# Altium schematic symbol library SCH_Active.SchLib: 28 symbols
Pins are listed as number, name and electrical type; pins without a type are passive.

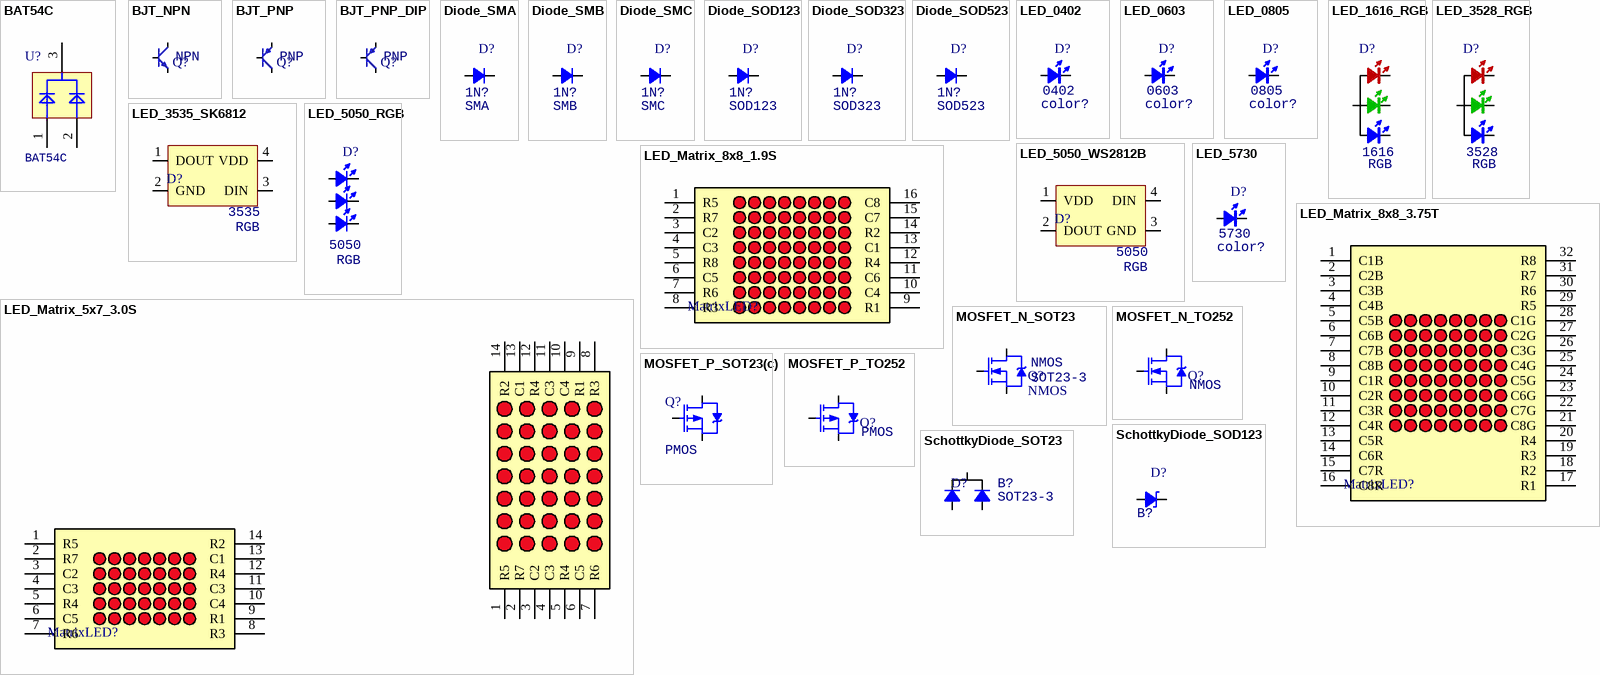
[diagram p0: symbols BAT54C to SchottkyDiode_SOT23]

## BAT54C
designator U?
Diode; type: BAT54C
footprint SOT23-3
pins: 1, 2, 3

## BJT_NPN
designator Q?, comment NPN
Transistor; Value: NPN
footprint SOT23-3
pins: 1 B, 2 E, 3 C

## BJT_PNP
designator Q?, comment PNP
Transistor; Value: PNP
footprint SOT23-3
pins: 1 B, 2 E, 3 C

## BJT_PNP_DIP
designator Q?, comment PNP
Transistor; Value: PNP
footprint TO-92_HDR
pins: 1 E, 2 B, 3 C

## Diode_SMA
designator D?, comment Type: SMA  (hidden comment: 1N?)
Diode; Value: 1N?
footprint DO-214AC (SMA)
pins: 1 A, 2 K

## Diode_SMB
designator D?, comment Type: SMB  (hidden comment: 1N?)
Diode; Value: 1N?
footprint DO-214AA (SMB)
pins: 1 A, 2 K

## Diode_SMC
designator D?, comment Type: SMC  (hidden comment: 1N?)
Diode; Value: 1N?
footprint DO-214AB (SMC)
pins: 1 A, 2 K

## Diode_SOD123
designator D?, comment Type: SOD123  (hidden comment: 1N?)
Diode; Value: 1N?
footprint SOD-123
pins: 1 A, 2 K

## Diode_SOD323
designator D?, comment Type: SOD323  (hidden comment: 1N?)
Diode; Value: 1N?
footprint SOD-323
pins: 1 A, 2 K

## Diode_SOD523
designator D?, comment Type: SOD523  (hidden comment: 1N?)
Diode; Value: 1N?
footprint SOD-523
pins: 1 A, 2 K

## LED_0402
designator D?, comment Type: 0402  (hidden comment: color?)
LED; Value: color?
footprint LED_0402_RED
footprint LED_0402_BLUE
footprint LED_0402_ORANGE
footprint LED_0402_YELLOW
footprint LED_0402_GREEN
pins: 1 A, 2 K

## LED_0603
designator D?, comment Type: 0603  (hidden comment: color?)
LED; Value: color?
footprint LED_0603_GREEN
footprint LED_0603_BLUE
footprint LED_0603_RED
footprint LED_0603_ORANGE
footprint LED_0603_YELLOW
pins: 1 A, 2 K

## LED_0805
designator D?, comment Type: 0805  (hidden comment: color?)
LED; Value: color?
footprint LED_0805_GREEN
footprint LED_0805_BLUE
footprint LED_0805_RED
footprint LED_0805_ORANGE
footprint LED_0805_YELLOW
pins: 1 A, 2 K

## LED_1616_RGB
designator D?, comment Type: 1616  (hidden comment: RGB)
LED; Value: RGB
footprint LED_1616_RGB
pins: 1 R, 2 G, 3 B, 4 A

## LED_3528_RGB
designator D?, comment Type: 3528  (hidden comment: RGB)
LED; Value: RGB
footprint LED_3528_RGB
pins: 1 R, 2 G, 3 B, 4 A

## LED_3535_SK6812
designator D?, comment Type: 3535  (hidden comment: RGB)
LED; Value: RGB
footprint LED_3535_4P
pins: 1 DOUT, 2 GND, 3 DIN, 4 VDD

## LED_5050_RGB
designator D?, comment Type: 5050  (hidden comment: RGB)
LED; Value: RGB
footprint LED_5050_6P
pins: 1 K, 2 K, 3 K, 4 A, 5 A, 6 A

## LED_5050_WS2812B
designator D?, comment Type: 5050  (hidden comment: RGB)
LED; Value: RGB
footprint LED_5050_WS2812B
pins: 1 VDD, 2 DOUT, 3 GND, 4 DIN

## LED_5730
designator D?  Type: 5730  Type: color?
LED
footprint LED_5730_WHITE
pins: 1 A, 2 K

## LED_Matrix_5x7_3.0S
designator MatrixLED?  (value not drawn)
MatrixLED
footprint LED_Matrix_5x7_3.0S
pins: 1 R5, 1 R5, 2 R7, 2 R7, 3 C2, 3 C2, 4 C3, 4 C3, 5 R4, 5 R4, 6 C5, 6 C5, 7 R6, 7 R6, 8 R3, 8 R3, 9 R1, 9 R1, 10 C4, 10 C4, 11 C3, 11 C3, 12 R4, 12 R4, 13 C1, 13 C1, 14 R2, 14 R2

## LED_Matrix_8x8_1.9S
designator MatrixLED?  (value not drawn)
MatrixLED
footprint LED_Matrix_8x8_1.9S (Footprint not found)
pins: 1 R5, 2 R7, 3 C2, 4 C3, 5 R8, 6 C5, 7 R6, 8 R3, 9 R1, 10 C4, 11 C6, 12 R4, 13 C1, 14 R2, 15 C7, 16 C8

## LED_Matrix_8x8_3.75T
designator MatrixLED?  (value not drawn)
MatrixLED
footprint LED_Matrix_8x8_3.75T
pins: 1 C1B, 2 C2B, 3 C3B, 4 C4B, 5 C5B, 6 C6B, 7 C7B, 8 C8B, 9 C1R, 10 C2R, 11 C3R, 12 C4R, 13 C5R, 14 C6R, 15 C7R, 16 C8R, 17 R1, 18 R2, 19 R3, 20 R4, 21 C8G, 22 C7G, 23 C6G, 24 C5G, 25 C4G, 26 C3G, 27 C2G, 28 C1G, 29 R5, 30 R6, 31 R7, 32 R8

## MOSFET_N_SOT23
designator Q?, comment NMOS  Type: SOT23-3
MOSFET; Value: NMOS
footprint SOT23-3
pins: 1 G, 2 S, 3 D

## MOSFET_N_TO252
designator Q?, comment NMOS
MOSFET; Value: NMOS
footprint TO-252AA
pins: 1 G, 3 S, 4 D

## MOSFET_P_SOT23(c)
designator Q?
MOSFET
footprint SOT23-3
pins: 1 G, 2 S, 3 D
text: PMOS

## MOSFET_P_TO252
designator Q?, comment PMOS
MOSFET; Value: PMOS
footprint TO-252AA
pins: 1 G, 3 S, 4 D

## SchottkyDiode_SOD123
designator D?, comment B?
Schottky Diode; Value: B?
footprint SOD-123
pins: 1 A, 2 K

## SchottkyDiode_SOT23
designator D?, comment Type: SOT23-3  (hidden comment: B?)
Schottky Diode; Value: B?
footprint SOT23-3
pins: 1 A, 2 A, 3 K